# Altium schematic symbol library CHSA3920R0003F.SchLib: 1 symbol
Pins are listed as number, name and electrical type; pins without a type are passive.

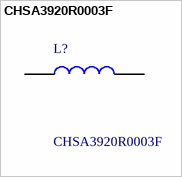
[diagram p0: symbol CHSA3920R0003F]

## CHSA3920R0003F
designator L?
Current Sense Resistors - SMD CHS, 3920 SIZE, 10 Watt, 0.3 mohm, AEC-Q; Manufacturer_Name: Eaton; Geometry.Height: 2.26mm; Mouser Part Number: 504-CHSA3920R0003F; Mouser Price/Stock: https://www.mouser.co.uk/ProductDetail/Bussmann-Eaton/CHSA3920R0003F?qs=By6Nw2ByBD3h3Nqv5wmZ%252Bw%3D%3D; Manufacturer_Part_Number: CHSA3920R0003F; Datasheet Link: https://www.eaton.com/content/dam/eaton/products/electronic-components/resources/data-sheet/eaton-chsa-automotive-smd-current-sense-resistor-metal-shunt-data-sheet-elx1223-en.pdf
footprint CHSA3920R0003F
pins: 1, 2